# Altium footprint library Antenna.PcbLib: 1 footprints
Each footprint in its own frame and in the unit in brackets; x right, y up, seen from the top. Pads: shape width x height; smd on the part's side, far side on the other; paste and mask are expansions set on the pad; w line width, h text height; cw(c..) or ccw(c..) is an arc to the next point about the centre after c.
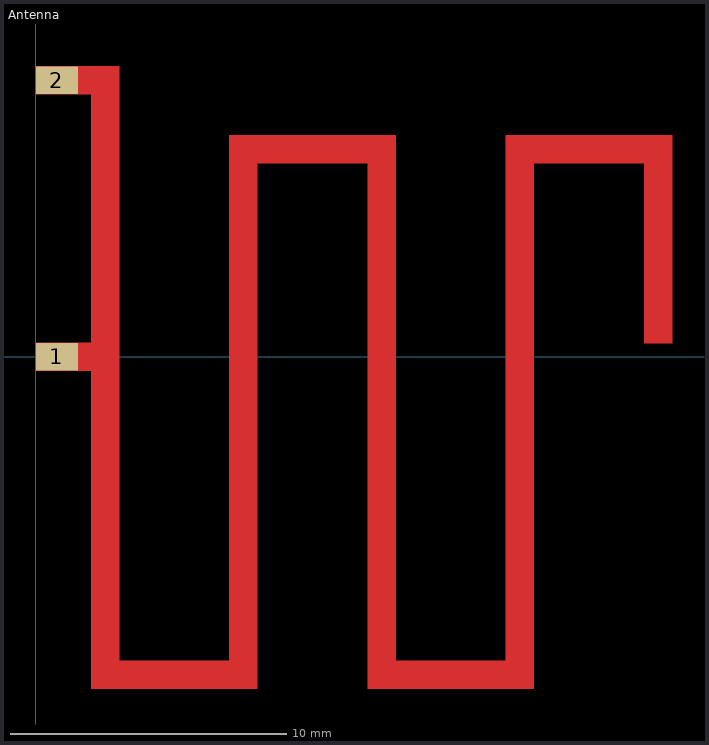
[diagram p0: the footprint, top view; thin cyan lines are the x and y axes]

## Antenna [mm]
pads (2):
  rect 1.524x1 smd paste+0 mask+0: 1(0.76,0) 2(0.76,10)
Top Layer:
  region: 2,-12.007 2,-0.507 0,-0.507 0,0.507 2,0.507 2,9.493 0,9.493 0,10.5 0,10.507 0.007,10.507 3.007,10.507 3.013,10.507 3.013,10.5 3.013,-10.993 7,-10.993 7,8 7,8.007 7.007,8.007 13.007,8.007 13.013,8.007 13.013,8 13.013,-10.993 17,-10.993 17,8 17,8.007 17.007,8.007 23.007,8.007 23.013,8.007 23.013,8 23.013,0.5 23.013,0.493 23.007,0.493 22.007,0.493 22,0.493 22,0.5 22,6.993 18.013,6.993 18.013,-12 18.007,-12.007 12.007,-12.007 12,-12.007 12,-12 12,6.993 8.013,6.993 8.013,-12 8.007,-12.007